# Altium schematic symbol library 2.4GHz Bluetooth.SchLib: 1 symbol
Pins are listed as number, name and electrical type; pins without a type are passive.

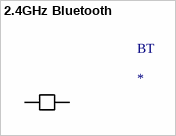
[diagram p0: symbol 2.4GHz Bluetooth]

## 2.4GHz Bluetooth
designator BT
footprint 2.4GHz Bluetooth (Chip Capacitor, 2-Leads, Body 6.55x2.20mm, IPC Medium Density)
pins: 1, 2